# Altium schematic symbol library SeniorProject-Unused.SchLib: 7 symbols
Pins are listed as number, name and electrical type; pins without a type are passive.

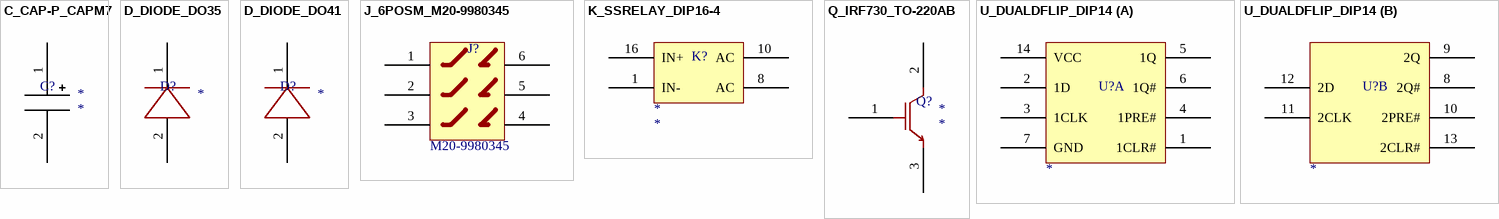
[diagram p0: symbols C_CAP-P_CAPM7 to U_DUALDFLIP_DIP14]

## C_CAP-P_CAPM7
designator C?, comment CAP  (value not drawn)
Part Number: *; Manufacturer: *; Value: *; Rating: *
footprint CAPM7
pins: 1, 2

## D_DIODE_DO35
designator D?
PartNumber: *; Rating: *
footprint DO35
pins: 1, 2

## D_DIODE_DO41
designator D?, comment DIODE  (value not drawn)
PartNumber: *; Rating: *
footprint DO41
pins: 1, 2

## J_6POSM_M20-9980345
designator J?  PartNumber: M20-9980345  (hidden comment: *)
Manufacturer: Harwin; Rating: 3A
footprint M20-9980345
pins: 1, 2, 3, 4, 5, 6

## K_SSRELAY_DIP16-4
designator K?
Rating: *; PartNumber: *
footprint DIP16-4
pins: 1 IN-, 8 AC, 10 AC, 16 IN+

## Q_IRF730_TO-220AB
designator Q?
PartNumber: *; Rating: *
footprint TO-220AB
pins: 1 G, 2 D, 3 S

## U_DUALDFLIP_DIP14
designator U?
PartNumber: *
footprint DIP14
part A pins: 1 1CLR#, 2 1D, 3 1CLK, 4 1PRE#, 5 1Q, 6 1Q#, 7 GND, 14 VCC
part B pins: 8 2Q#, 9 2Q, 10 2PRE#, 11 2CLK, 12 2D, 13 2CLR#